# Altium footprint library TE-2-292175-8.PcbLib: 1 footprints
Each footprint in its own frame and in the unit in brackets; x right, y up, seen from the top. Pads: shape width x height; smd on the part's side, far side on the other; paste and mask are expansions set on the pad; w line width, h text height; cw(c..) or ccw(c..) is an arc to the next point about the centre after c.
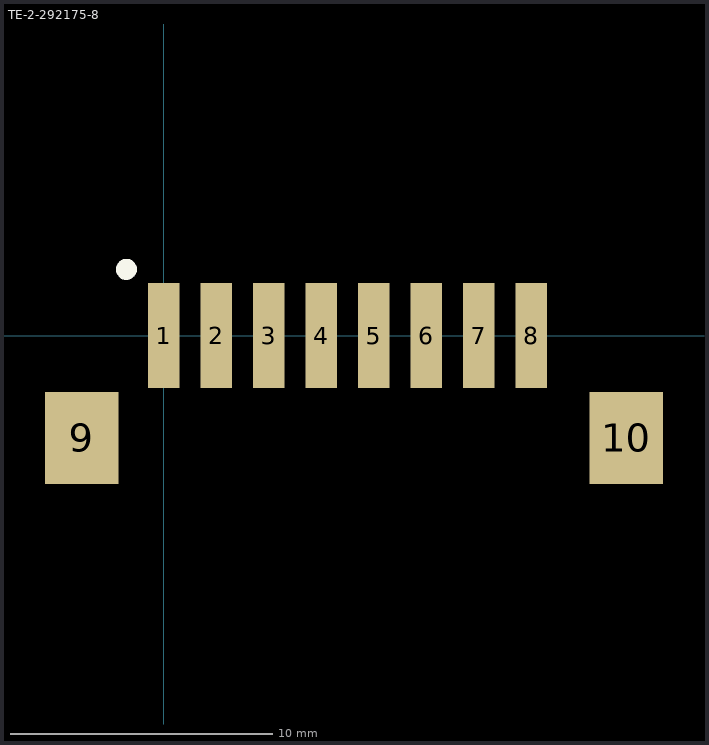
[diagram p0: the footprint, top view; thin cyan lines are the x and y axes]

## TE-2-292175-8 [mm]
pads (10):
  rect 1.2x4 smd mask+0.051: 1(0,0) 2(2,0) 3(4,0) 4(6,0) 5(8,0) 6(10,0) 7(12,0) 8(14,0)
  rect 2.8x3.5 smd: 9(-3.125,-3.9) 10(17.625,-3.9)
Top Overlay:
  circle w0.4: c-1.425,2.525 r0.2
3D body: height 7.85, standoff 0, extent -3.975,-7.45 18.475,0.85